# EAGLE library part TS3A225E (library GTA04b7)
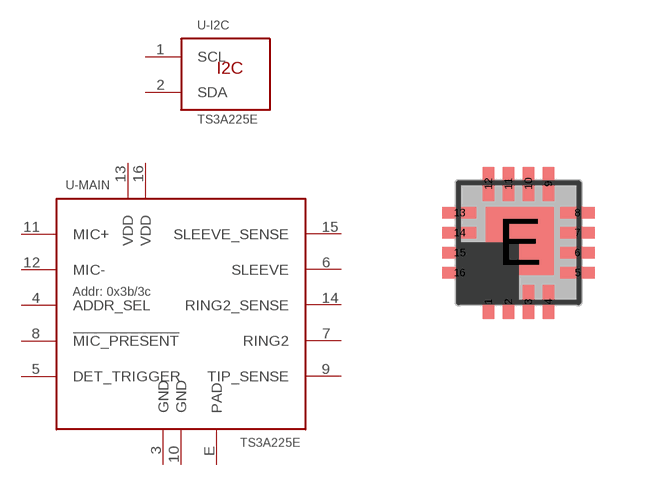
[diagram p50: symbol with the pads of S-PWQFN-N16-0.5; footprint S-PWQFN-N16-0.5]

Designator prefix -; gates -I2C=IF-I2C -MAIN=TS3A225-MAIN

## TS3A225ERTE  [S-PWQFN-N16-0.5]
1  -I2C:SCL
2  -I2C:SDA
3  -MAIN:GND  pwr
4  -MAIN:ADDR_SEL  in
5  -MAIN:DET_TRIGGER  in
6  -MAIN:SLEEVE  pas
7  -MAIN:RING2  pas
8  -MAIN:!MIC_PRESENT  oc
9  -MAIN:TIP_SENSE  pas
10  -MAIN:GND  pwr
11  -MAIN:MIC+  pas
12  -MAIN:MIC-  pas
13  -MAIN:VDD  pwr
14  -MAIN:RING2_SENSE  pas
15  -MAIN:SLEEVE_SENSE  pas
16  -MAIN:VDD  pwr
E  -MAIN:PAD  pwr

## Footprint S-PWQFN-N16-0.5 (pad centres in mm)
S-PWQFN-N16 (TI RTE)
smd 0.28 x 0.85: 1 -0.75,-1.475; 2 -0.25,-1.475; 3 0.25,-1.475; 4 0.75,-1.475; 9 0.75,1.475; 10 0.25,1.475; 11 -0.25,1.475; 12 -0.75,1.475
smd 0.85 x 0.28: 5 1.475,-0.75; 6 1.475,-0.25; 7 1.475,0.25; 8 1.475,0.75; 13 -1.475,0.75; 14 -1.475,0.25; 15 -1.475,-0.25; 16 -1.475,-0.75
smd 1.7 x 1.7: E 0.03,0.04